# Altium schematic symbol library ADP7118ACPZN.SchLib: 1 symbol
Pins are listed as number, name and electrical type; pins without a type are passive.

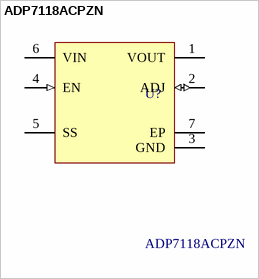
[diagram p0: symbol ADP7118ACPZN]

## ADP7118ACPZN
designator U?
IC REG LIN POS ADJ 200MA 6LFCSP; Number of Outputs: 1; Quiescent Current: 140uA; Max Input Voltage: 20V; Output Voltage: 19.8V; Operating Supply Current: 180uA; Min Current Limit: 250mA; Dropout Voltage: 200mV; Input Bias Current: 1uA; Power Supply Rejection Ratio (PSRR): 50dB; Output Type: Adjustable; Polarity: Positive; Min Input Voltage: 2.7V; Accuracy: 0.8%; Max Output Current: 200mA; Packaging: Tape and Reel; Number of Regulators: 1; Package Quantity: 3000; Max Operating Temperature: 125°C; Mount: Surface Mount; RoHS Compliant: Yes; Min Operating Temperature: -40°C; Number of Pins: 6; Contact Plating: Gold; Lead Free: Contains Lead; Output Current: 200mA
footprint ADP7118ACPZN-R7
pins: 1 VOUT, 2 ADJ (io), 3 GND (power), 4 EN (in), 5 SS, 6 VIN (power), 7 EP (power)